# Altium integrated library TL1100EF160Q.IntLib: 1 symbol
Pins are listed as number, name and electrical type; pins without a type are passive.

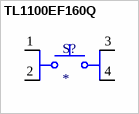
[diagram p0: symbol TL1100EF160Q]

## TL1100EF160Q
designator S?
Tactile Switch SPST-NO Top Actuated Through Hole; MF: E-Switch; MP: TL1100EF160Q; Value: *; SnapEDA_Link: https://www.snapeda.com/parts/TL1100EF160Q/E-Switch/view-part/?ref=snap; Purchase-URL: https://pricing.snapeda.com/search/part/TL1100EF160Q/?ref=eda; Availability: In Stock; Price: None; Package: None; Check_prices: https://www.snapeda.com/parts/TL1100EF160Q/E-Switch/view-part/?ref=eda
footprint SW_TL1100EF160Q
pins: 1, 2, 3, 4